# Altium footprint library TO-247-3.PcbLib: 1 footprints
Each footprint in its own frame and in the unit in brackets; x right, y up, seen from the top. Pads: shape width x height; smd on the part's side, far side on the other; paste and mask are expansions set on the pad; w line width, h text height; cw(c..) or ccw(c..) is an arc to the next point about the centre after c.
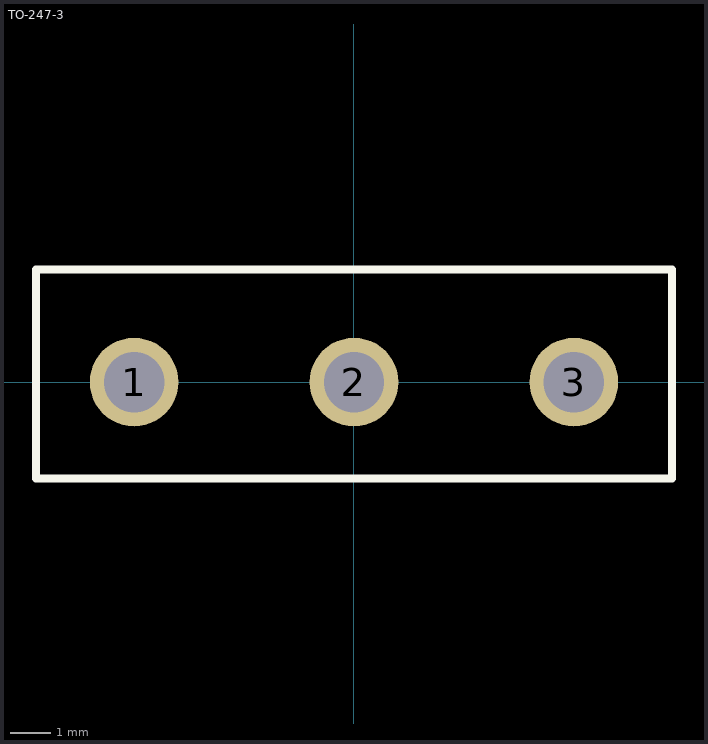
[diagram p0: the footprint, top view; thin cyan lines are the x and y axes]

## TO-247-3 [mm]
height 1.1
pads (3):
  round 2.2 hole 1.5: 1(-5.46,0) 2(0,0) 3(5.46,0)
Top Overlay:
  lines w0.2: -7.9,-2.4 7.9,-2.4 7.9,2.8 -7.9,2.8 -7.9,-2.4
Top Assembly:
  lines w0.1: -7.9,-2.4 -7.9,2.8 7.85,2.8 7.85,1.869 7.85,-1.044 7.85,-2.4 -7.9,-2.4
  text "'.Designator'" at 0,0 h0.7
3D body "TO-247.STEP": height 30.08, standoff -5.22, extent -7.75,-2.28 7.75,2.72